# Altium footprint library FootPrintLib_4.PcbLib: 700 footprints (part 27 of 44)
Each footprint in its own frame and in the unit in brackets; x right, y up, seen from the top. Pads: shape width x height; smd on the part's side, far side on the other; paste and mask are expansions set on the pad; w line width, h text height; cw(c..) or ccw(c..) is an arc to the next point about the centre after c.
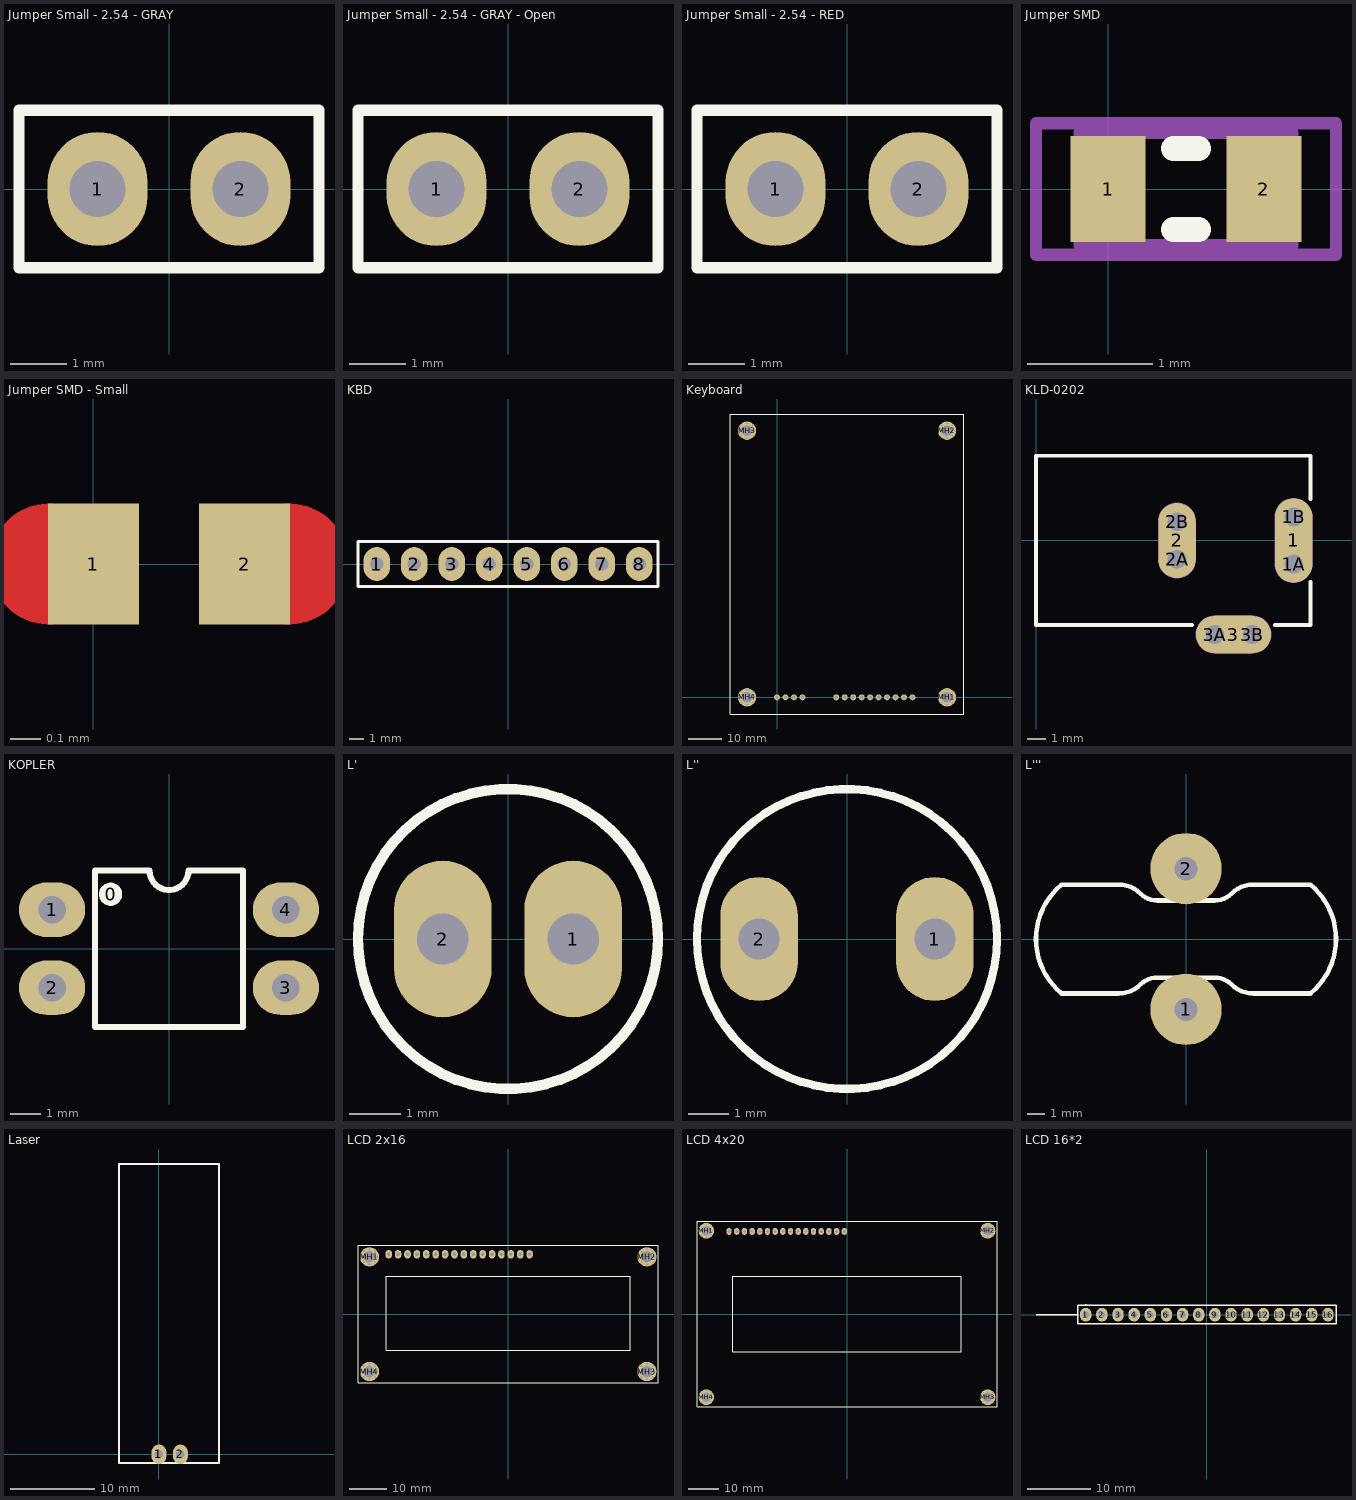
[diagram p26: the footprints below, top view; thin cyan lines are the x and y axes]

## Jumper Small - 2.54 - GRAY [mil]
pads (2):
  oval 70x80 hole 39.37: 1(-50,0) 2(50,0)
Top Overlay:
  lines w7.87: -105.12,-55.12 -105.12,55.12 105.12,55.12 105.12,-55.12 -105.12,-55.12
3D body "header02.STEP": height 330, standoff -100, extent -100,-50 100,50
3D body "jumper_akspt_g-grey.STEP": height 337.4, standoff 102.36, extent -98.03,-48.03 98.03,48.03

## Jumper Small - 2.54 - GRAY - Open [mil]
pads (2):
  oval 70x80 hole 39.37: 1(-50,0) 2(50,0)
Top Overlay:
  lines w7.87: -105.12,-55.12 -105.12,55.12 105.12,55.12 105.12,-55.12 -105.12,-55.12
3D body "header02.STEP": height 330, standoff -100, extent -100,-50 100,50
3D body "jumper_akspt_g-grey.STEP": height 337.4, standoff 102.36, extent 2.75,-48.03 198.82,48.03

## Jumper Small - 2.54 - RED [mil]
pads (2):
  oval 70x80 hole 39.37: 1(-50,0) 2(50,0)
Top Overlay:
  lines w7.87: -105.12,-55.12 -105.12,55.12 105.12,55.12 105.12,-55.12 -105.12,-55.12
3D body "header02.STEP": height 330, standoff -100, extent -100,-50 100,50
3D body "jumper_akspt_g-red.STEP": height 337.4, standoff 102.36, extent -98.03,-48.03 98.03,48.03

## Jumper SMD [mm]
pads (2):
  rect 0.6x0.85 smd: 1(0,0) 2(1.244,0)
Top Overlay:
  lines w0.2: 0.522,-0.325 0.722,-0.325 ; 0.522,0.325 0.722,0.325
Mechanical 13:
  lines w0.1: -0.228,-0.45 -0.228,0.45 1.472,0.45 1.472,-0.45 -0.228,-0.45
Mechanical 15:
  lines w0.1: -0.578,-0.525 1.822,-0.525 1.822,0.525 -0.578,0.525 -0.578,-0.525
3D body "0603.STEP": height 0.45, standoff 0, extent -0.14,-0.381 1.384,0.381

## Jumper SMD - Small [mm]
pads (2):
  rect 0.3x0.4 smd paste+0 mask+0: 1(0,0) 2(0.5,0)
Top Layer:
  lines w0.2: -0.144,-0.1 cw(c-0.146,0) -0.144,0.1 ; 0.644,-0.1 ccw(c0.646,0) 0.644,0.1
Top Solder:
  rectangle: -0.15,-0.2 0.65,0.2
  lines w0.2: -0.144,-0.1 cw(c-0.146,0) -0.144,0.1 ; 0.644,-0.1 ccw(c0.646,0) 0.644,0.1

## KBD [mil]
pads (8):
  oval 70x90 hole 35.43: 1(-350,0) 2(-250,0) 3(-150,0) 4(-50,0) 5(50,0) 6(150,0) 7(250,0) 8(350,0)
Top Overlay:
  lines w8: -400,-60 400,-60 400,60 -400,60 -400,-60

## Keyboard [mm] "Matrix Keyboard 4x4"
pads (50):
  round 1.778 hole 1.016: C1(20.32,0) C2(22.86,0) C3(25.4,0) C4(27.94,0) CO(40.64,0) L1(30.48,0) L2(33.02,0) L3(35.56,0) L4(38.1,0) R1(0,0) R2(2.54,0) R3(5.08,0) R4(7.62,0) V(17.78,0)
  round 0 hole 0.5: MH1(48.8,0) MH1(49.444,-1.556) MH1(49.444,1.556) MH1(51,-2.2) MH1(51,2.2) MH1(52.556,-1.556) MH1(52.556,1.556) MH1(53.2,0) MH2(48.8,80) MH2(49.444,78.444) MH2(49.444,81.556) MH2(51,77.8) MH2(51,82.2) MH2(52.556,78.444) MH2(52.556,81.556) MH2(53.2,80) MH3(-11.2,80) MH3(-10.556,78.444) MH3(-10.556,81.556) MH3(-9,77.8) MH3(-9,82.2) MH3(-7.444,78.444) MH3(-7.444,81.556) MH3(-6.8,80) MH4(-11.2,0) MH4(-10.556,-1.556) MH4(-10.556,1.556) MH4(-9,-2.2) MH4(-9,2.2) MH4(-7.444,-1.556) MH4(-7.444,1.556) MH4(-6.8,0)
  round 5.5 hole 3.2: MH1(51,0) MH2(51,80) MH3(-9,80) MH4(-9,0)
Top Overlay:
  lines w0.254: -14,-5 56,-5 56,85 -14,85 -14,-5
3D body: height 22.25, standoff 16.6, extent -14.1,5.8 56.2,71.2
3D body "Keyboard.STEP": height 22.22, standoff 15, extent -14,-5 56,85
3D body "Spacer.STEP": height 15, standoff -5, extent 48.142,77.525 53.858,82.475
3D body "Spacer.STEP": height 15, standoff -5, extent 48.142,-2.475 53.858,2.475
3D body "Spacer.STEP": height 15, standoff -5, extent -11.858,-2.475 -6.142,2.475
3D body "Spacer.STEP": height 15, standoff -5, extent -11.858,77.525 -6.142,82.475
3D body "header10-15mm.STEP": height 18.03, standoff -2.54, extent 16.51,-1.27 41.91,1.27
3D body "header04-15mm.STEP": height 18.03, standoff -2.54, extent -1.27,-1.27 8.89,1.27

## KLD-0202 [mm] "DC Power Jack, 2.5mm, KLD Series, PCB Mount"
pads (9):
  oval 2x4.5 all layers, no hole: 1(13.7,0)
  round 1.5 hole 1: 1A(13.7,-1.25) 1B(13.7,1.25) 2A(7.5,-1) 2B(7.5,1) 3A(9.5,-5) 3B(11.5,-5)
  oval 2x4 all layers, no hole: 2(7.5,0)
  oval 4x2 all layers, no hole: 3(10.5,-5)
Top Overlay:
  lines w0.2: 8.3,-4.5 0,-4.5 0,4.5 14.6,4.5 14.6,2.2 ; 12.7,-4.5 14.6,-4.5 14.6,-2.2
Mechanical 1:
  lines w1: 7.5,-1 7.5,1 ; 9.5,-5 11.5,-5 ; 13.7,-1.25 13.7,1.25
  text "Alert PCB fab to slot details" at 0.286,6.066 h0.3
  text "Assign keep-out area to slot" at 0.286,6.566 h0.3
  text "Mech 1 - Slot cut-out" at 0.286,5.566 h0.3
  text "Mech 2 - Clearance, move to internal plane if present" at 0.286,5.066 h0.3
Mechanical 2:
  lines w2.016: 7.5,-1 7.5,1 ; 9.5,-5 11.5,-5 ; 13.7,-1.25 13.7,1.25

## KOPLER [mil]
pads (5):
  round 30 on Top Overlay: 0(-75,70)
  oval 85x70 hole 35.43: 1(-150,50) 2(-150,-50) 3(150,-50) 4(150,50)
Top Overlay:
  lines w7.87: -95,-100.39 95,-100.39 95,100.39 25,100.39 cw(c0,100.39) -25,100.39 -95,100.39 -95,-100.39

## L' [mm] "2.54 paye, 6mm qotr"
pads (2):
  oval 1.905x3.048 hole 1: 1(1.27,0) 2(-1.27,0)
Top Overlay:
  circle w0.203: c0,0 r2.921

## L'' [mil] "4.38 paye, 7.38mm qotr"
pads (2):
  oval 75x120 hole 39.37: 1(85,0) 2(-85,0)
Top Overlay:
  circle w8: c0,0 r145

## L''' [mm]
pads (2):
  round 3.988 hole 1.3: 1(0,-3.937)
  round 4 hole 1.3: 2(0,3.937)
Top Overlay:
  lines w0.254: -6.975,-3.048 -3.766,-3.048 ccw(c-3.766,-1.314) -2.54,-2.54 cw(c-1.62,-3.46) -1.62,-2.159 1.62,-2.159 cw(c1.62,-3.46) 2.54,-2.54 ccw(c3.766,-1.314) 3.766,-3.048 6.975,-3.048 ; -6.975,-3.035 cw(c-4.445,0) -6.968,3.041 ; -6.975,3.048 -3.766,3.048 cw(c-3.766,1.314) -2.54,2.54 ccw(c-1.62,3.46) -1.62,2.159 1.62,2.159 ccw(c1.62,3.46) 2.54,2.54 cw(c3.766,1.314) 3.766,3.048 6.975,3.048 ; 6.968,-3.041 ccw(c4.445,0) 6.975,3.035

## Laser [mil]
pads (2):
  oval 70x90 hole 40: 1(0,0) 2(100,0)
Top Overlay:
  lines w10: -186.22,-40 280,-40 280,1349.21 -186.22,1349.21 -186.22,-40
3D body: height 241.21, standoff 231.23, extent 45,1160 54.96,2160
3D body "laser.STEP": height 472.44, standoff 0, extent -186.22,50 286.22,1435.83

## LCD 2x16 [mm] "Character LCD, 2 Row, 16 Colunm"
pads (52):
  oval 1.778x2.286 hole 1.016: 1(-32.3,16.2) 2(-29.76,16.2) 3(-27.22,16.2) 4(-24.68,16.2) 5(-22.14,16.2) 6(-19.6,16.2) 7(-17.06,16.2) 8(-14.52,16.2) 9(-11.98,16.2) 10(-9.44,16.2) 11(-6.9,16.2) 12(-4.36,16.2) 13(-1.82,16.2) 14(0.72,16.2) 15(3.26,16.2) 16(5.8,16.2)
  round 0 hole 0.5: MH1(-39.55,15.5) MH1(-38.95,14.05) MH1(-38.95,16.95) MH1(-37.5,13.45) MH1(-37.5,17.55) MH1(-36.05,14.05) MH1(-36.05,16.95) MH1(-35.45,15.5) MH2(35.45,15.5) MH2(36.05,16.949) MH2(36.051,14.05) MH2(37.5,17.55) MH2(37.5,13.45) MH2(38.95,16.95) MH2(38.95,14.05) MH2(39.55,15.5) MH3(35.45,-15.5) MH3(36.05,-14.051) MH3(36.051,-16.95) MH3(37.5,-13.45) MH3(37.5,-17.55) MH3(38.95,-14.05) MH3(38.95,-16.95) MH3(39.55,-15.5) MH4(-39.55,-15.5) MH4(-38.95,-14.051) MH4(-38.949,-16.95) MH4(-37.5,-13.45) MH4(-37.5,-17.55) MH4(-36.051,-14.05) MH4(-36.05,-16.949) MH4(-35.45,-15.5)
  round 5.2 hole 3.1: MH1(-37.5,15.5) MH2(37.5,15.5) MH3(37.5,-15.5) MH4(-37.5,-15.5)
Top Overlay:
  lines w0.254: -40.6,-18.5 40.5,-18.5 40.5,18.6 -40.6,18.6 -40.6,-18.5 ; -33,-9.7 33,-9.7 33,10.3 -33,10.3 -33,-9.7
3D body "14801-15 H.STEP": height 18.71, standoff -3.71, extent 35.2,13.2 39.8,17.8
3D body "14801-15 H.STEP": height 18.71, standoff -3.71, extent 35.2,-17.8 39.8,-13.2
3D body "14801-15 H.STEP": height 18.71, standoff -3.71, extent -39.8,-17.9 -35.2,-13.3
3D body "14801-15 H.STEP": height 18.71, standoff -3.71, extent -39.8,13.2 -35.2,17.8
3D body "My LCD.STEP": height 25.52, standoff 12.31, extent -40.292,-18.268 40.208,18.232
3D body "header16-15mm.STEP": height 18.03, standoff -2.54, extent -33.57,14.93 7.07,17.47
3D body: height 24.5, standoff 24.4, extent -33,-8.255 33.02,8.255

## LCD 4x20 [mm] "Character LCD 4 Row, 20 Colunm"
pads (20):
  oval 1.778x2.286 hole 1.016: 1(-39,27.3) 2(-36.46,27.3) 3(-33.92,27.3) 4(-31.38,27.3) 5(-28.84,27.3) 6(-26.3,27.3) 7(-23.76,27.3) 8(-21.22,27.3) 9(-18.68,27.3) 10(-16.14,27.3) 11(-13.6,27.3) 12(-11.06,27.3) 13(-8.52,27.3) 14(-5.98,27.3) 15(-3.44,27.3) 16(-0.9,27.3)
  round 5.2 hole 3.1: MH1(-46.5,27.5) MH2(46.5,27.5) MH3(46.5,-27.5) MH4(-46.5,-27.5)
via -44.45,-27.5 diameter 1 hole 0.5
via -45.051,-26.051 diameter 1 hole 0.5
via -46.5,-25.45 diameter 1 hole 0.5
via -47.95,-26.051 diameter 1 hole 0.5
via -48.55,-27.5 diameter 1 hole 0.5
via -47.95,-28.95 diameter 1 hole 0.5
via -46.5,-29.55 diameter 1 hole 0.5
via -45.051,-28.95 diameter 1 hole 0.5
via 48.55,-27.5 diameter 1 hole 0.5
via 47.949,-26.051 diameter 1 hole 0.5
via 46.5,-25.45 diameter 1 hole 0.5
via 45.05,-26.051 diameter 1 hole 0.5
via 44.45,-27.5 diameter 1 hole 0.5
via 45.05,-28.95 diameter 1 hole 0.5
via 46.5,-29.55 diameter 1 hole 0.5
via 47.949,-28.95 diameter 1 hole 0.5
via 48.55,27.5 diameter 1 hole 0.5
via 47.95,28.95 diameter 1 hole 0.5
via 46.5,29.55 diameter 1 hole 0.5
via 45.05,28.95 diameter 1 hole 0.5
via 44.45,27.5 diameter 1 hole 0.5
via 45.05,26.05 diameter 1 hole 0.5
via 46.5,25.45 diameter 1 hole 0.5
via 47.95,26.05 diameter 1 hole 0.5
via -45.051,26.05 diameter 1 hole 0.5
via -46.5,25.45 diameter 1 hole 0.5
via -47.95,26.05 diameter 1 hole 0.5
via -48.55,27.5 diameter 1 hole 0.5
via -47.95,28.949 diameter 1 hole 0.5
via -46.5,29.55 diameter 1 hole 0.5
via -45.051,28.949 diameter 1 hole 0.5
via -44.45,27.5 diameter 1 hole 0.5
Top Overlay:
  lines w0.254: -49.6,-30.6 -49.6,30.6 49.6,30.6 49.6,-30.6 -49.6,-30.6 ; -37.8,-12.5 -37.8,12.5 37.8,12.5 37.8,-12.5 -37.8,-12.5
3D body "14801-15 H.STEP": height 18.71, standoff -3.71, extent 44.2,25.2 48.8,29.8
3D body "14801-15 H.STEP": height 18.71, standoff -3.71, extent 44.2,-29.8 48.8,-25.2
3D body "14801-15 H.STEP": height 18.71, standoff -3.71, extent -48.8,-29.8 -44.2,-25.2
3D body "header16-15mm.STEP": height 18.03, standoff -2.54, extent -40.27,26.03 0.37,28.57
3D body "User Library-LCD 20 x 4.STEP": height 26.17, standoff 15.07, extent -49,-30 49,30
3D body "14801-15 H.STEP": height 18.71, standoff -3.71, extent -48.8,25.2 -44.2,29.8
3D body: height 25.35, standoff 25.3, extent -37.846,-12.446 37.8,12.5

## LCD 16*2 [mil]
pads (16):
  oval 70x85 hole 39.37: 1(-750,2.12) 2(-650,2.12) 3(-550,2.12) 4(-450,2.12) 5(-350,2.12) 6(-250,2.12) 7(-150,2.12) 8(-50,2.12) 9(50,2.12) 10(150,2.12) 11(250,2.12) 12(350,2.12) 13(450,2.12) 14(550,2.12) 15(650,2.12) 16(750,2.12)
Top Overlay:
  lines w7.87: 800,-55 800,60
  lines w8: -1057.88,2.12 -800,2.12 ; -750,60 -750,67.12 ; 800,-55 -800,-55 -800,60 -717.12,60 800,60